# Altium footprint library WE-LHMI.PcbLib: 15 footprints
Each footprint in its own frame and in the unit in brackets; x right, y up, seen from the top. Pads: shape width x height; smd on the part's side, far side on the other; paste and mask are expansions set on the pad; w line width, h text height; cw(c..) or ccw(c..) is an arc to the next point about the centre after c.
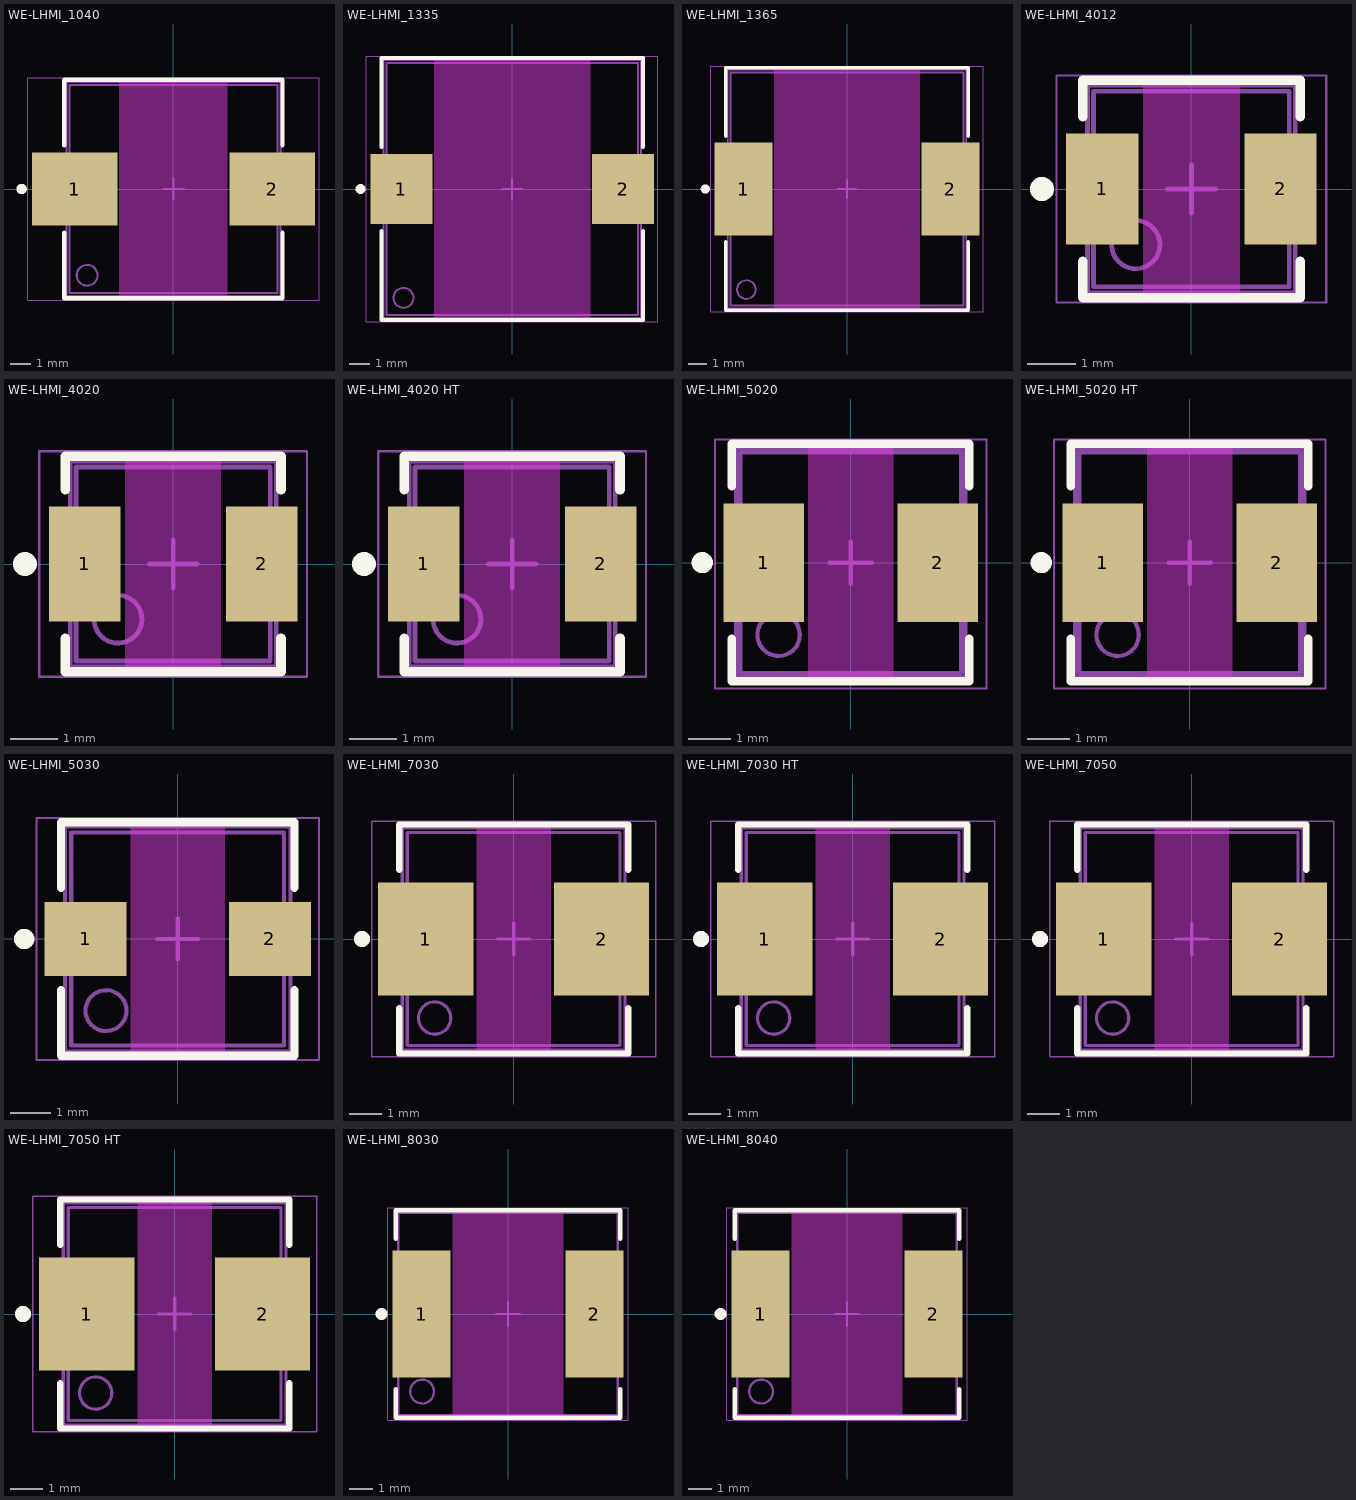
[diagram p0: the footprints below, top view; thin cyan lines are the x and y axes]

## WE-LHMI_1040 [mm] "SMT Power Inductor, 2-Leads, body 10x10mm"
height 3.8
pads (2):
  rect 4.1x3.5 smd: 1(-4.75,0) 2(4.75,0)
Top Layer keep-out:
  region: -2.6,5.15 2.6,5.15 2.6,-5.15 -2.6,-5.15
Top Overlay:
  circle w0.25: c-7.3,0 r0.125
  lines w0.2: -5.25,-2.1 -5.25,-5.25 5.25,-5.25 5.25,-2.1 ; -5.25,2.1 -5.25,5.25 5.25,5.25 5.25,2.1
Top Assembly:
  circle w0.1: c-4.15,-4.15 r0.5
  lines w0.1: -5.15,-5.15 5.15,-5.15 5.15,5.15 -5.15,5.15 -5.15,-5.15
Top Designator:
  text ".Designator" at -3.647,-0.357 h1
Top 3D Body:
  lines w0.1: -5,-5 -5,5 5,5 5,-5 -5,-5
Top Courtyard:
  lines w0.05: -7,-5.35 7,-5.35 7,5.35 -7,5.35 -7,-5.35
Top Component Center:
  lines w0.1: -0.5,0 0.5,0 ; 0,-0.5 0,0.5
3D body "IndLHMI_1040HT.stp": height 3.8, standoff 0, extent -5.5,-5 5.5,5

## WE-LHMI_1335 [mm] "SMT Power Inductor, 2-Leads, body 12.6x12.6mm"
height 3.3
pads (2):
  rect 3.1x3.5 smd: 1(-5.55,0) 2(5.55,0)
Top Layer keep-out:
  region: -3.9,6.45 3.9,6.45 3.9,-6.45 -3.9,-6.45
Top Overlay:
  circle w0.25: c-7.6,0 r0.125
  lines w0.2: -6.55,-2.1 -6.55,-6.55 6.55,-6.55 6.55,-2.1 ; -6.55,2.1 -6.55,6.55 6.55,6.55 6.55,2.1
Top Assembly:
  circle w0.1: c-5.45,-5.45 r0.5
  lines w0.1: -6.45,-6.45 -6.45,6.45 6.45,6.45 6.45,-6.45 -6.45,-6.45
Top Designator:
  text ".Designator" at -3.647,-0.357 h1
Top 3D Body:
  lines w0.1: -6.3,-6.3 -6.3,6.3 6.3,6.3 6.3,-6.3 -6.3,-6.3
Top Courtyard:
  lines w0.05: -7.3,-6.65 -7.3,6.65 7.3,6.65 7.3,-6.65 -7.3,-6.65
Top Component Center:
  lines w0.1: -0.5,0 0.5,0 ; 0,-0.5 0,0.5
3D body "IndHC1335_molded.stp": height 3.3, standoff 0, extent -6.75,-6.3 6.75,6.3

## WE-LHMI_1365 [mm] "SMT Power Inductor, 2-Leads, body 12.5x12.5mm"
height 6.2
pads (2):
  rect 3.1x5 smd: 1(-5.55,0) 2(5.55,0)
Top Layer keep-out:
  region: -3.9,6.4 3.9,6.4 3.9,-6.4 -3.9,-6.4
Top Overlay:
  circle w0.25: c-7.6,0 r0.125
  lines w0.2: -6.5,-2.85 -6.5,-6.5 6.5,-6.5 6.5,-2.85 ; -6.5,2.85 -6.5,6.5 6.5,6.5 6.5,2.85
Top Assembly:
  circle w0.1: c-5.4,-5.4 r0.5
  lines w0.1: -6.4,-6.4 6.4,-6.4 6.4,6.4 -6.4,6.4 -6.4,-6.4
Top Designator:
  text ".Designator" at -3.647,-0.357 h1
Top 3D Body:
  lines w0.1: -6.25,-6.25 -6.25,6.25 6.25,6.25 6.25,-6.25 -6.25,-6.25
Top Courtyard:
  lines w0.05: -7.3,-6.6 -7.3,6.6 7.3,6.6 7.3,-6.6 -7.3,-6.6
Top Component Center:
  lines w0.1: -0.5,0 0.5,0 ; 0,-0.5 0,0.5
3D body "IndLHMI_1365.stp": height 6.2, standoff 0, extent -6.75,-6.25 6.75,6.25

## WE-LHMI_4012 [mm] "SMT Power Inductor, 2-Leads, body 4.06x4.06mm"
height 1
pads (2):
  rect 1.5x2.3 smd: 1(-1.85,0) 2(1.85,0)
Top Layer keep-out:
  region: -1,2.155 1,2.155 1,-2.155 -1,-2.155
Top Overlay:
  circle w0.25: c-3.1,0 r0.125
  lines w0.2: -2.255,-1.5 -2.255,-2.255 2.255,-2.255 2.255,-1.5 ; -2.255,1.5 -2.255,2.255 2.255,2.255 2.255,1.5
Top Assembly:
  circle w0.1: c-1.155,-1.155 r0.5
  lines w0.1: -2.155,-2.155 2.155,-2.155 2.155,2.155 -2.155,2.155 -2.155,-2.155
Top Designator:
  text ".Designator" at -3.647,-0.357 h1
Top 3D Body:
  lines w0.1: -2.03,-2.03 2.03,-2.03 2.03,2.03 -2.03,2.03 -2.03,-2.03
Top Courtyard:
  lines w0.05: -2.8,-2.355 2.8,-2.355 2.8,2.355 -2.8,2.355 -2.8,-2.355
Top Component Center:
  lines w0.1: -0.5,0 0.5,0 ; 0,-0.5 0,0.5
3D body "IndLHMI_4012_molded.stp": height 1, standoff 0, extent -2.225,-2.03 2.225,2.03

## WE-LHMI_4020 [mm] "SMT Power Inductor, 2-Leads, body 4.06x4.06mm"
height 1.8
pads (2):
  rect 1.5x2.4 smd: 1(-1.85,0) 2(1.85,0)
Top Layer keep-out:
  region: -1,2.155 1,2.155 1,-2.155 -1,-2.155
Top Overlay:
  circle w0.25: c-3.1,0 r0.125
  lines w0.2: -2.255,-1.55 -2.255,-2.255 2.255,-2.255 2.255,-1.55 ; -2.255,1.55 -2.255,2.255 2.255,2.255 2.255,1.55
Top Assembly:
  circle w0.1: c-1.155,-1.155 r0.5
  lines w0.1: -2.155,-2.155 2.155,-2.155 2.155,2.155 -2.155,2.155 -2.155,-2.155
Top Designator:
  text ".Designator" at -3.647,-0.357 h1
Top 3D Body:
  lines w0.1: -2.03,-2.03 2.03,-2.03 2.03,2.03 -2.03,2.03 -2.03,-2.03
Top Courtyard:
  lines w0.05: -2.8,-2.355 2.8,-2.355 2.8,2.355 -2.8,2.355 -2.8,-2.355
Top Component Center:
  lines w0.1: -0.5,0 0.5,0 ; 0,-0.5 0,0.5
3D body "IndHC0402_molded.stp": height 1.8, standoff 0, extent -2.225,-2.03 2.225,2.03

## WE-LHMI_4020 HT [mm] "SMT Power Inductor, 2-Leads, body 4.06x4.06mm"
height 1.8
pads (2):
  rect 1.5x2.4 smd: 1(-1.85,0) 2(1.85,0)
Top Layer keep-out:
  region: -1,2.155 1,2.155 1,-2.155 -1,-2.155
Top Overlay:
  circle w0.25: c-3.1,0 r0.125
  lines w0.2: -2.255,-1.55 -2.255,-2.255 2.255,-2.255 2.255,-1.55 ; -2.255,1.55 -2.255,2.255 2.255,2.255 2.255,1.55
Top Assembly:
  circle w0.1: c-1.155,-1.155 r0.5
  lines w0.1: -2.155,-2.155 -2.155,2.155 2.155,2.155 2.155,-2.155 -2.155,-2.155
Top Designator:
  text ".Designator" at -3.647,-0.357 h1
Top 3D Body:
  lines w0.1: -2.03,-2.03 -2.03,2.03 2.03,2.03 2.03,-2.03 -2.03,-2.03
Top Courtyard:
  lines w0.05: -2.8,-2.355 -2.8,2.355 2.8,2.355 2.8,-2.355 -2.8,-2.355
Top Component Center:
  lines w0.1: -0.5,0 0.5,0 ; 0,-0.5 0,0.5
3D body "IndHC0402_molded.stp": height 1.83, standoff 0.03, extent -2.225,-2.03 2.225,2.03

## WE-LHMI_5020 [mm] "SMT Power Inductor, 2-Leads, body 5.2x5.2mm"
height 1.8
pads (2):
  rect 1.9x2.8 smd: 1(-2.05,0) 2(2.05,0)
Top Layer keep-out:
  region: -1,2.7 1,2.7 1,-2.7 -1,-2.7
Top Overlay:
  circle w0.25: c-3.5,0 r0.125
  lines w0.2: -2.8,-1.8 -2.8,-2.8 2.8,-2.8 2.8,-1.8 ; -2.8,1.8 -2.8,2.8 2.8,2.8 2.8,1.8
Top Assembly:
  circle w0.1: c-1.7,-1.7 r0.5
  lines w0.1: -2.7,-2.7 -2.7,2.7 2.7,2.7 2.7,-2.7 -2.7,-2.7
Top Designator:
  text ".Designator" at -3.647,-0.357 h1
Top 3D Body:
  lines w0.1: -2.6,-2.6 -2.6,2.6 2.6,2.6 2.6,-2.6 -2.6,-2.6
Top Courtyard:
  lines w0.05: -3.2,-2.963 3.2,-2.963 3.2,2.9 -3.2,2.9 -3.2,-2.963
Top Component Center:
  lines w0.1: -0.5,0 0.5,0 ; 0,-0.5 0,0.5
3D body "IndLHMI5020_molded.stp": height 1.8, standoff 0, extent -2.85,-2.6 2.85,2.6

## WE-LHMI_5020 HT [mm] "SMT Power Inductor, 2-Leads, body 5.2x5.2mm"
height 1.8
pads (2):
  rect 1.9x2.8 smd: 1(-2.05,0) 2(2.05,0)
Top Layer keep-out:
  region: -1,2.7 1,2.7 1,-2.7 -1,-2.7
Top Overlay:
  circle w0.25: c-3.5,0 r0.125
  lines w0.2: -2.8,-1.8 -2.8,-2.8 2.8,-2.8 2.8,-1.8 ; -2.8,1.8 -2.8,2.8 2.8,2.8 2.8,1.8
Top Assembly:
  circle w0.1: c-1.7,-1.7 r0.5
  lines w0.1: -2.7,-2.7 -2.7,2.7 2.7,2.7 2.7,-2.7 -2.7,-2.7
Top Designator:
  text ".Designator" at -3.647,-0.357 h1
Top 3D Body:
  lines w0.1: -2.6,-2.6 -2.6,2.6 2.6,2.6 2.6,-2.6 -2.6,-2.6
Top Courtyard:
  lines w0.05: -3.2,-2.963 3.2,-2.963 3.2,2.9 -3.2,2.9 -3.2,-2.963
Top Component Center:
  lines w0.1: -0.5,0 0.5,0 ; 0,-0.5 0,0.5
3D body "IndLHMI5020_molded.stp": height 1.83, standoff 0.03, extent -2.85,-2.6 2.85,2.6

## WE-LHMI_5030 [mm] "SMT Power Inductor, 2-Leads, body 5.2x5.2mm"
height 2.8
pads (2):
  rect 2x1.8 smd: 1(-2.25,0) 2(2.25,0)
Top Layer keep-out:
  region: -1.15,2.75 1.15,2.75 1.15,-2.75 -1.15,-2.75
Top Overlay:
  circle w0.25: c-3.75,0 r0.125
  lines w0.2: -2.85,-1.25 -2.85,-2.85 2.85,-2.85 2.85,-1.25 ; -2.85,1.25 -2.85,2.85 2.85,2.85 2.85,1.25
Top Assembly:
  circle w0.1: c-1.75,-1.75 r0.5
  lines w0.1: -2.75,-2.75 2.75,-2.75 2.75,2.75 -2.75,2.75 -2.75,-2.75
Top Designator:
  text ".Designator" at -3.647,-0.357 h1
Top 3D Body:
  lines w0.1: -2.6,-2.6 -2.6,2.6 2.6,2.6 2.6,-2.6 -2.6,-2.6
Top Courtyard:
  lines w0.05: -3.45,-2.95 3.45,-2.95 3.45,2.95 -3.45,2.95 -3.45,-2.95
Top Component Center:
  lines w0.1: -0.5,0 0.5,0 ; 0,-0.5 0,0.5
3D body "IndLHMI5030_molded.stp": height 2.8, standoff 0, extent -2.85,-2.6 2.85,2.6

## WE-LHMI_7030 [mm] "SMT Power Inductor, 2-Leads, body 6.6x6.6mm"
height 2.8
pads (2):
  rect 2.95x3.5 smd: 1(-2.725,0) 2(2.725,0)
Top Layer keep-out:
  region: -1.15,3.45 1.15,3.45 1.15,-3.45 -1.15,-3.45
Top Overlay:
  circle w0.25: c-4.7,0 r0.125
  lines w0.2: -3.55,-2.15 -3.55,-3.55 3.55,-3.55 3.55,-2.15 ; -3.55,2.15 -3.55,3.55 3.55,3.55 3.55,2.15
Top Assembly:
  circle w0.1: c-2.45,-2.45 r0.5
  lines w0.1: -3.45,-3.45 -3.45,3.45 3.45,3.45 3.45,-3.45 -3.45,-3.45
Top Designator:
  text ".Designator" at -3.647,-0.357 h1
Top 3D Body:
  lines w0.1: -3.3,-3.3 -3.3,3.3 3.3,3.3 3.3,-3.3 -3.3,-3.3
Top Courtyard:
  lines w0.05: -4.4,-3.65 -4.4,3.65 4.4,3.65 4.4,-3.65 -4.4,-3.65
Top Component Center:
  lines w0.1: -0.5,0 0.5,0 ; 0,-0.5 0,0.5
3D body "IndHC7030_molded.stp": height 2.8, standoff 0, extent -3.65,-3.3 3.65,3.3

## WE-LHMI_7030 HT [mm] "SMT Power Inductor, 2-Leads, body 6.6x6.6mm"
height 2.8
pads (2):
  rect 2.95x3.5 smd: 1(-2.725,0) 2(2.725,0)
Top Layer keep-out:
  region: -1.15,3.45 1.15,3.45 1.15,-3.45 -1.15,-3.45
Top Overlay:
  circle w0.25: c-4.7,0 r0.125
  lines w0.2: -3.55,-2.15 -3.55,-3.55 3.55,-3.55 3.55,-2.15 ; -3.55,2.15 -3.55,3.55 3.55,3.55 3.55,2.15
Top Assembly:
  circle w0.1: c-2.45,-2.45 r0.5
  lines w0.1: -3.45,-3.45 -3.45,3.45 3.45,3.45 3.45,-3.45 -3.45,-3.45
Top Designator:
  text ".Designator" at -3.647,-0.357 h1
Top 3D Body:
  lines w0.1: -3.3,-3.3 -3.3,3.3 3.3,3.3 3.3,-3.3 -3.3,-3.3
Top Courtyard:
  lines w0.05: -4.4,-3.65 -4.4,3.65 4.4,3.65 4.4,-3.65 -4.4,-3.65
Top Component Center:
  lines w0.1: -0.5,0 0.5,0 ; 0,-0.5 0,0.5
3D body "IndHC7030_molded.stp": height 2.8, standoff 0, extent -3.65,-3.3 3.65,3.3

## WE-LHMI_7050 [mm] "SMT Power Inductor, 2-Leads, body 6.6x6.6mm"
height 4.8
pads (2):
  rect 2.95x3.5 smd: 1(-2.725,0) 2(2.725,0)
Top Layer keep-out:
  region: -1.15,3.45 1.15,3.45 1.15,-3.45 -1.15,-3.45
Top Overlay:
  circle w0.25: c-4.7,0 r0.125
  lines w0.2: -3.55,-2.15 -3.55,-3.55 3.55,-3.55 3.55,-2.15 ; -3.55,2.15 -3.55,3.55 3.55,3.55 3.55,2.15
Top Assembly:
  circle w0.1: c-2.45,-2.45 r0.5
  lines w0.1: -3.45,-3.45 -3.45,3.45 3.45,3.45 3.45,-3.45 -3.45,-3.45
Top Designator:
  text ".Designator" at -3.647,-0.357 h1
Top 3D Body:
  lines w0.1: -3.3,-3.3 -3.3,3.3 3.3,3.3 3.3,-3.3 -3.3,-3.3
Top Courtyard:
  lines w0.05: -4.4,-3.65 -4.4,3.65 4.4,3.65 4.4,-3.65 -4.4,-3.65
Top Component Center:
  lines w0.1: -0.5,0 0.5,0 ; 0,-0.5 0,0.5
3D body "IndHC7050_molded.stp": height 4.8, standoff 0, extent -3.65,-3.3 3.65,3.3

## WE-LHMI_7050 HT [mm] "SMT Power Inductor, 2-Leads, body 6.6x6.6mm"
height 4.8
pads (2):
  rect 2.95x3.5 smd: 1(-2.725,0) 2(2.725,0)
Top Layer keep-out:
  region: -1.15,3.45 1.15,3.45 1.15,-3.45 -1.15,-3.45
Top Overlay:
  circle w0.25: c-4.7,0 r0.125
  lines w0.2: -3.55,-2.15 -3.55,-3.55 3.55,-3.55 3.55,-2.15 ; -3.55,2.15 -3.55,3.55 3.55,3.55 3.55,2.15
Top Assembly:
  circle w0.1: c-2.45,-2.45 r0.5
  lines w0.1: -3.45,-3.45 3.45,-3.45 3.45,3.45 -3.45,3.45 -3.45,-3.45
Top Designator:
  text ".Designator" at -3.647,-0.357 h1
Top 3D Body:
  lines w0.1: -3.3,-3.3 3.3,-3.3 3.3,3.3 -3.3,3.3 -3.3,-3.3
Top Courtyard:
  lines w0.05: -4.4,-3.65 4.4,-3.65 4.4,3.65 -4.4,3.65 -4.4,-3.65
Top Component Center:
  lines w0.1: -0.5,0 0.5,0 ; 0,-0.5 0,0.5
3D body "IndHC7050_molded.stp": height 4.8, standoff 0, extent -3.65,-3.3 3.65,3.3

## WE-LHMI_8030 [mm] "SMT Power Inductor, 2-Leads, body 9.2x8.5mm"
height 3
pads (2):
  rect 2.42x5.33 smd: 1(-3.62,0) 2(3.62,0)
Top Layer keep-out:
  region: -2.31,4.25 2.31,4.25 2.31,-4.25 -2.31,-4.25
Top Overlay:
  circle w0.25: c-5.3,0 r0.125
  lines w0.2: -4.7,-3.15 -4.7,-4.35 4.7,-4.35 4.7,-3.15 ; -4.7,3.15 -4.7,4.35 4.7,4.35 4.7,3.15
Top Assembly:
  circle w0.1: c-3.6,-3.25 r0.5
  lines w0.1: -4.6,-4.25 -4.6,4.25 4.6,4.25 4.6,-4.25 -4.6,-4.25
Top Designator:
  text ".Designator" at -3.647,-0.357 h1
Top 3D Body:
  lines w0.1: -4.6,-4.25 -4.6,4.25 4.6,4.25 4.6,-4.25 -4.6,-4.25
Top Courtyard:
  lines w0.05: -5.03,-4.45 5.03,-4.45 5.03,4.45 -5.03,4.45 -5.03,-4.45
Top Component Center:
  lines w0.1: -0.5,0 0.5,0 ; 0,-0.5 0,0.5
3D body "IndLHMI_8030.stp": height 3, standoff 0, extent -4.725,-4.1 4.725,4.1

## WE-LHMI_8040 [mm] "SMT Power Inductor, 2-Leads, body 9.2x8.5mm"
height 4
pads (2):
  rect 2.42x5.33 smd: 1(-3.62,0) 2(3.62,0)
Top Layer keep-out:
  region: -2.31,4.25 2.31,4.25 2.31,-4.25 -2.31,-4.25
Top Overlay:
  circle w0.25: c-5.3,0 r0.125
  lines w0.2: -4.7,-3.15 -4.7,-4.35 4.7,-4.35 4.7,-3.15 ; -4.7,3.15 -4.7,4.35 4.7,4.35 4.7,3.15
Top Assembly:
  circle w0.1: c-3.6,-3.25 r0.5
  lines w0.1: -4.6,-4.25 -4.6,4.25 4.6,4.25 4.6,-4.25 -4.6,-4.25
Top Designator:
  text ".Designator" at -3.647,-0.357 h1
Top 3D Body:
  lines w0.1: -4.6,-4.25 -4.6,4.25 4.6,4.25 4.6,-4.25 -4.6,-4.25
Top Courtyard:
  lines w0.05: -5.03,-4.45 5.03,-4.45 5.03,4.45 -5.03,4.45 -5.03,-4.45
Top Component Center:
  lines w0.1: -0.5,0 0.5,0 ; 0,-0.5 0,0.5
3D body "IndLHMI_8040.stp": height 4, standoff 0, extent -4.725,-4.1 4.725,4.1